# Altium footprint library Connector.PcbLib: 2 footprints
Each footprint in its own frame and in the unit in brackets; x right, y up, seen from the top. Pads: shape width x height; smd on the part's side, far side on the other; paste and mask are expansions set on the pad; w line width, h text height; cw(c..) or ccw(c..) is an arc to the next point about the centre after c.
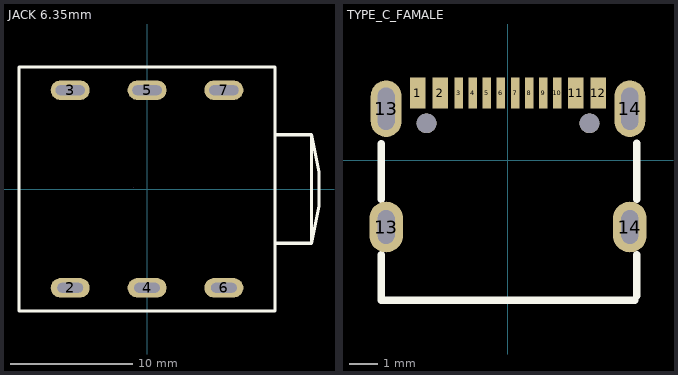
[diagram p0: the footprints below, top view; thin cyan lines are the x and y axes]

## JACK 6.35mm [mm] "-20?~+70? 6.35mm Headphone Jack 50V 1A Through Hole Audio Connectors RoHS"
pads (6):
  oval 3.2x1.6 hole 0.8 slot 2.1 at 0 deg paste-2539.97 mask+0.051: 2(-6.3,-8.1) 4(0,-8.1) 6(6.3,-8.1)
  oval 3.2x1.6 hole 0.8 slot 2.4 at 0 deg paste-2539.97 mask+0.051: 3(-6.3,8.1) 5(0,8.1) 7(6.3,8.1)
Top Overlay:
  lines w0.254: 10.5,-4.45 13.5,-4.45 ; 10.5,4.45 13.5,4.45 ; 13.5,-4.45 14.1,-1.4 14.1,1.4 13.5,4.45 ; 13.5,-4.45 13.5,4.45 ; -10.5,-10 -10.5,10 10.5,10 10.5,-10 -10.5,-10
Mechanical 15:
  lines w0.003: -1.071,0.127 -1.071,0.127
3D body "SJ-63073E--3DModel-STEP-1.STEP": height 15.58, standoff -3.91, extent -18.937,-9.967 14.263,10.033

## TYPE_C_FAMALE [mm]
pads (18):
  rect 0.55x1.1 smd paste-100 mask+0.05: 1(-3.2,2.375) 2(-2.4,2.375) 11(2.4,2.375) 12(3.2,2.375)
  rect 0.3x1.1 smd paste-100 mask+0.05: 3(-1.75,2.375) 4(-1.25,2.375) 5(-0.75,2.375) 6(-0.25,2.375) 7(0.25,2.375) 8(0.75,2.375) 9(1.25,2.375) 10(1.75,2.375)
  oval 1.2x1.8 hole 0.6 slot 1.2 at 90 deg paste-2539.97 mask+0.05: 13(-4.325,-2.375) 14(4.325,-2.375)
  oval 1.1x2 hole 0.6 slot 1.5 at 90 deg paste-2539.97 mask+0.05: 13(-4.325,1.825) 14(4.325,1.825)
  round 0.7 hole 0.7 unplated paste-2539.97: ""(-2.89,1.305) ""(2.89,1.305)
Top Overlay:
  lines w0.254: -4.5,-3.356 -4.5,-4.975 4.5,-4.975 ; -4.5,-1.394 -4.5,0.594 ; 4.572,-4.826 4.572,-3.353 ; 4.572,-1.397 4.572,0.597
Top Paste:
  drawing of 16 lines, arcs and shapes, not listed
Mechanical 15:
  circle w0.25: c2.89,1.305 r0.125
  circle w0.25: c-2.89,1.305 r0.125
3D body "TypeC 16P.step": height 3.21, standoff -1.26, extent -4.575,-5.093 4.625,2.857